# Altium schematic symbol library 25SVPF56M.SchLib: 1 symbol
Pins are listed as number, name and electrical type; pins without a type are passive.

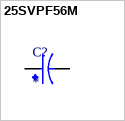
[diagram p0: symbol 25SVPF56M]

## 25SVPF56M
designator C?
Capacitor, Aluminum Organic Polymer, 25VDC,56uF,30mohm,6.3x6mm,T&R | Panasonic Electronic Components 25SVPF56M / JLCPCB C494513; SnapEDA_Link: https://www.snapeda.com/parts/25SVPF56M/Panasonic+Electronic+Components/view-part/?ref=snap; Package: RADIAL-2 Panasonic; Value: *; MF: Panasonic; MP: 25SVPF56M; Check_prices: https://www.snapeda.com/parts/25SVPF56M/Panasonic+Electronic+Components/view-part/?ref=eda
footprint CAP_25SVPF56M
pins: 1, 2